# Altium footprint library DAC.PcbLib: 30 footprints (part 1 of 2)
Each footprint in its own frame and in the unit in brackets; x right, y up, seen from the top. Pads: shape width x height; smd on the part's side, far side on the other; paste and mask are expansions set on the pad; w line width, h text height; cw(c..) or ccw(c..) is an arc to the next point about the centre after c.
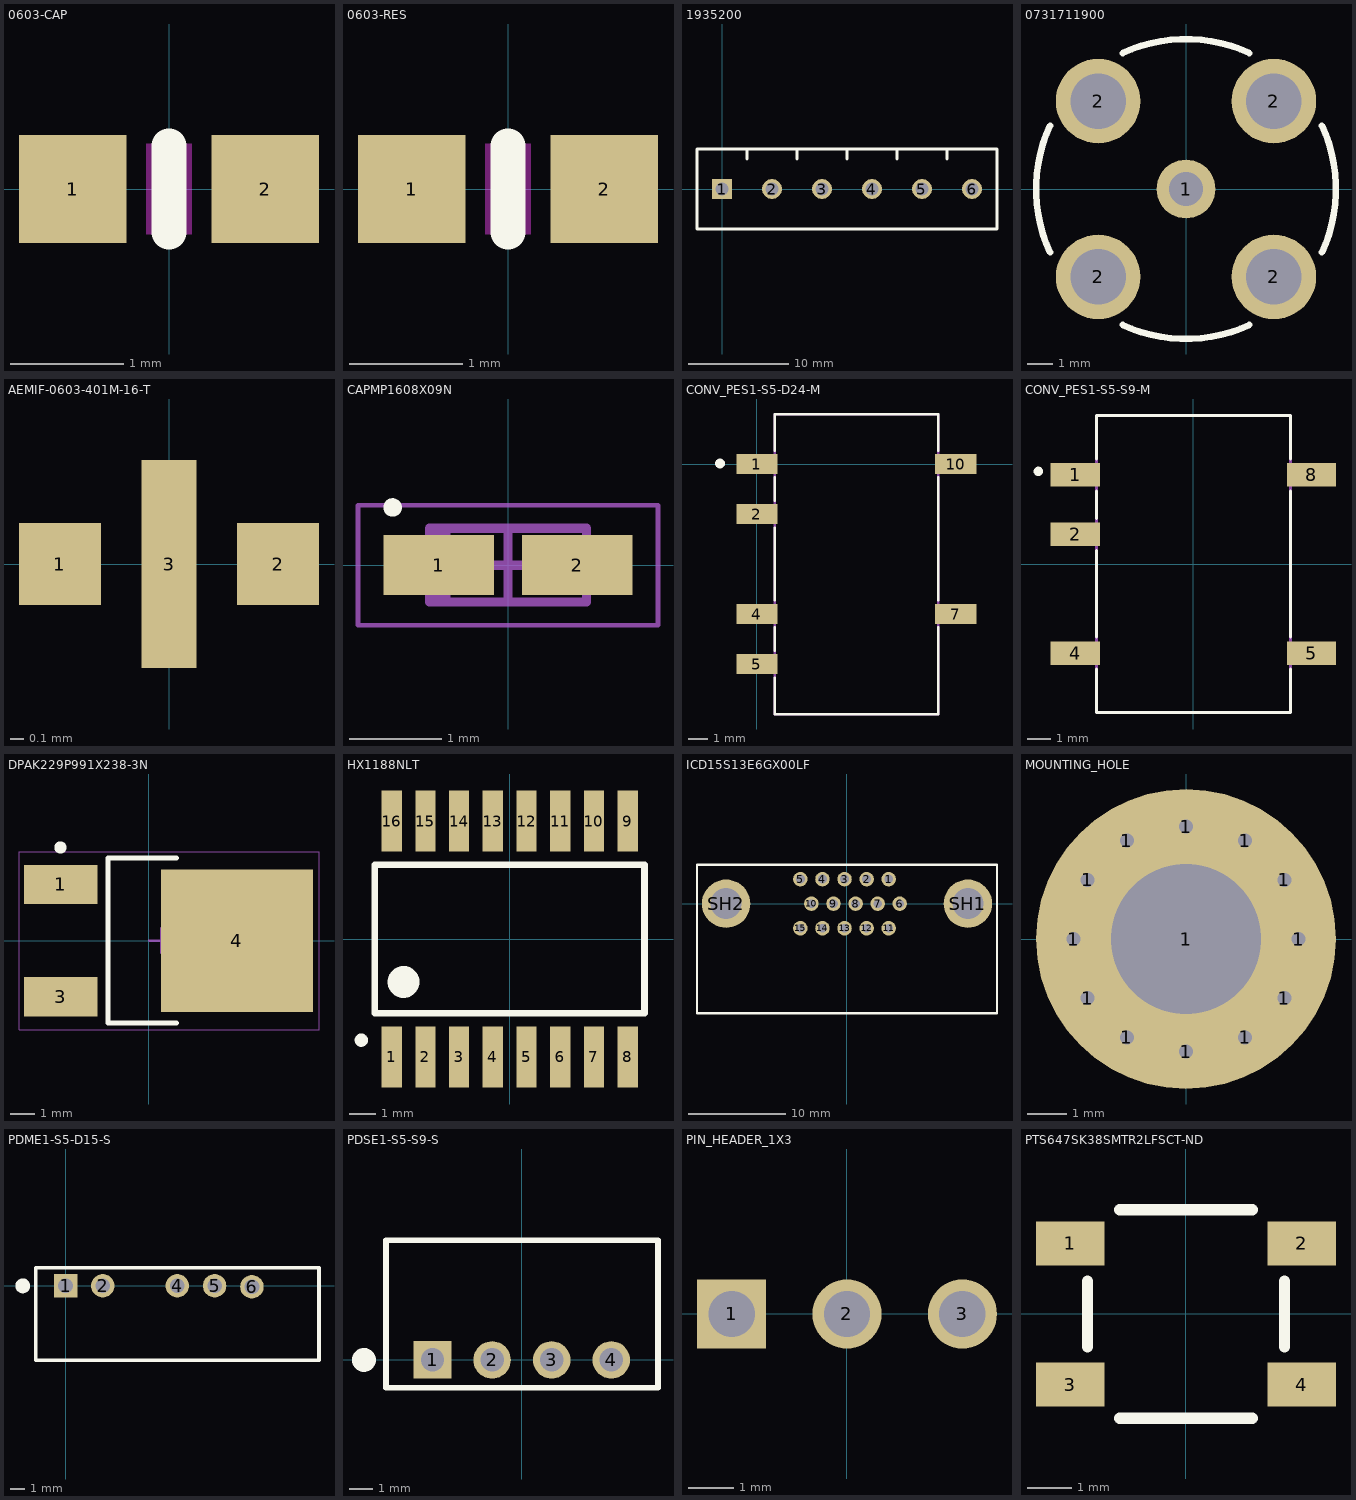
[diagram p0: the footprints below, top view; thin cyan lines are the x and y axes]

## 0603-CAP [mm]
pads (2):
  rect 0.95x0.95 smd: 1(-0.85,0) 2(0.85,0)
Top Layer keep-out:
  region: -0.2,0.4 0.2,0.4 0.2,-0.4 -0.2,-0.4
Top Overlay:
  lines w0.305: 0,-0.381 0,0.381
3D body "CL10B105MO8NNWC--3DModel-STEP-56544.STEP": height 0.78, standoff -0.02, extent -0.775,-0.45 0.825,0.45

## 0603-RES [mm]
pads (2):
  rect 0.95x0.95 smd: 1(-0.85,0) 2(0.85,0)
Top Layer keep-out:
  region: -0.2,0.4 0.2,0.4 0.2,-0.4 -0.2,-0.4
Top Overlay:
  lines w0.305: 0,-0.381 0,0.381
3D body "0603res.step": height 0.44, standoff -0.02, extent -0.8,-0.4 0.8,0.4

## 1935200 [mm]
pads (6):
  rect 2x2 hole 1.3: 1(0,0)
  round 2 hole 1.3: 2(5,0) 3(10,0) 4(15,0) 5(20,0) 6(25,0)
Top Overlay:
  lines w0.254: 2.5,3 2.5,4 ; 7.5,3 7.5,4 ; 12.5,3 12.5,4 ; 17.5,3 17.5,4 ; 22.5,3 22.5,4 ; -2.5,-4 27.5,-4 27.5,4 -2.5,4 -2.5,-4
3D body "1935161--3DModel-STEP-56544.STEP": height 11.5, standoff -3.4, extent -2.9,-4 7.5,5
3D body "1935161--3DModel-STEP-56544.STEP": height 11.5, standoff -3.4, extent 7.1,-4 17.5,5
3D body "1935161--3DModel-STEP-56544.STEP": height 11.5, standoff -3.4, extent 17.1,-4 27.5,5

## 0731711900 [mil] "CONN BNC JACK STR 75 OHM PCB"
pads (5):
  round 90 / inner round 60 / far side round 60 hole 52: 1(0,0)
  round 130 hole 85: 2(-135,-135)
  round 130 hole 85 paste+0: 2(-135,135) 2(135,-135) 2(135,135)
Top Overlay:
  lines w10: -208.82,-97.37 cw(c0,0) -208.82,97.37 ; -97.37,-208.82 ccw(c0,0) 97.37,-208.82 ; -97.37,208.82 cw(c0,0) 97.37,208.82 ; 208.82,-97.37 ccw(c0,0) 208.82,97.37
3D body "731711900.stp": height 657, standoff -121.74, extent -217,-216.53 217,216.54

## AEMIF-0603-401M-16-T [mm]
pads (3):
  rect 0.6x0.6 smd: 1(-0.8,0) 2(0.8,0)
  rect 0.4x1.524 smd: 3(0,0)
3D body "CL10B105MO8NNWC--3DModel-STEP-56544.STEP": height 0.8, standoff 0, extent -0.8,-0.45 0.8,0.45

## CAPMP1608X09N [mm] "Molded Capacitor, 2-Leads, Body 1.60x0.75mm, IPC Medium Density"
height 0.9
pads (2):
  rect 1.2x0.65 smd: 1(-0.75,0) 2(0.75,0)
Top Overlay:
  circle w0.1: c-1.25,0.625 r0.05
Mechanical 13:
  rectangle: -0.85,-0.4 -0.621,0.4
  lines w0.1: -0.85,-0.4 -0.85,0.4 0.85,0.4 0.85,-0.4 -0.85,-0.4
Mechanical 15:
  lines w0.05: -1.625,-0.65 -1.625,0.65 1.625,0.65 1.625,-0.65 -1.625,-0.65
  lines w0.1: -0.4,0 0.4,0 ; 0,-0.4 0,0.4
3D body "CAPMP1608X09N.step": height 0.9, standoff 0, extent -1.07,-0.4 1.07,0.4

## CONV_PES1-S5-D24-M [mm]
pads (6):
  rect 2.1x1 smd: 1(0,0) 2(0,-2.54) 4(0,-7.62) 5(0,-10.16) 7(10.1,-7.62) 10(10.1,0)
Top Overlay:
  circle w0.25: c-1.88,0.025 r0.125
  lines w0.127: 0.9,-10.85 0.9,-12.7 9.2,-12.7 9.2,-8.3 ; 0.9,-9.48 0.9,-8.3 ; 0.9,-6.93 0.9,-3.23 ; 0.9,-1.86 0.9,-0.68 ; 0.9,0.68 0.9,2.54 9.2,2.54 9.2,0.68 ; 9.2,-6.93 9.2,-0.68
Mechanical 4:
  circle w0.2: c-0.58,-0.08 r0.1
  circle w0.2: c-0.58,-0.08 r0.1
  lines w0.127: 0.9,-12.7 9.2,-12.7 ; 0.9,-12.7 0.9,2.54 ; 0.9,-12.7 9.2,-12.7 ; 0.9,-12.7 0.9,2.54 ; 0.9,2.54 9.2,2.54 ; 0.9,2.54 9.2,2.54 ; 9.2,-12.7 9.2,2.54 ; 9.2,-12.7 9.2,2.54
3D body "CUI_PES1-S5-D24-M.step": height 7, standoff -0.25, extent -0.572,-12.7 10.672,2.54

## CONV_PES1-S5-S9-M [mm]
pads (5):
  rect 2.1x1 smd: 1(-5.05,3.81) 2(-5.05,1.27) 4(-5.05,-3.81) 5(5.05,-3.81) 8(5.05,3.81)
Top Overlay:
  circle w0.2: c-6.629,3.962 r0.1
  lines w0.127: -4.15,-4.5 -4.15,-6.35 4.15,-6.35 4.15,-4.49 ; -4.15,-3.12 -4.15,0.58 ; -4.15,1.95 -4.15,3.13 ; -4.15,4.49 -4.15,6.35 4.15,6.35 4.15,4.49 ; 4.15,-3.12 4.15,3.13
Mechanical 13:
  lines w0.127: -4.15,-6.35 4.15,-6.35 4.15,6.35 -4.15,6.35 -4.15,-6.35
3D body "CUI_PES1-S5-S9-M.step": height 7.2, standoff -0.05, extent -5.622,-6.35 5.622,6.35

## DPAK229P991X238-3N [mm] "D-PAK, 3-Pads, Body 6.21x6.73mm (max), IPC Medium Density"
height 2.38
pads (3):
  rect 3x1.6 smd: 1(-3.59,2.29) 3(-3.59,-2.29)
  rect 6.2x5.8 smd: 4(3.59,0)
Top Overlay:
  circle w0.25: c-3.6,3.8 r0.125
  lines w0.2: 1.125,-3.361 -1.655,-3.361 -1.655,3.362 1.125,3.362
Mechanical 15:
  lines w0.05: -5.29,-3.625 6.939,-3.625 6.939,3.625 -5.29,3.625 -5.29,-3.625
  lines w0.1: 0.01,0 1.01,0 ; 0.51,-0.5 0.51,0.5
3D body "DPAK229P991X238-3N.step": height 2.38, standoff 0, extent -4.35,-3.375 5.555,3.375

## HX1188NLT [mil] "XFRMR MAGNETIC 1PORT 1:1 10/100"
height 236
pads (16):
  rect 30x90 smd: 1(-175,-175) 2(-125,-175) 3(-75,-175) 4(-25,-175) 5(25,-175) 6(75,-175) 7(125,-175) 8(175,-175) 9(175,175) 10(125,175) 11(75,175) 12(25,175) 13(-25,175) 14(-75,175) 15(-125,175) 16(-175,175)
Top Overlay:
  circle w23.62: c-157.48,-63.62 r11.81
  circle w9.84: c-220,-150 r4.92
  lines w10: -200,-110 -200,110 200,110 200,-110 -200,-110
3D body "HX1188NL_3D.STEP": height 235, standoff 0, extent -250,-181.06 250,188.93

## ICD15S13E6GX00LF [mm] "CONN DSUB HD RCPT 15POS R/A SLDR"
pads (17):
  round 1.5 hole 0.9: 1(4.305,2.54) 2(2.025,2.54) 3(-0.255,2.54) 4(-2.535,2.54) 5(-4.815,2.54) 6(5.445,0) 7(3.165,0) 8(0.885,0) 9(-1.395,0) 10(-3.675,0) 11(4.305,-2.54) 12(2.025,-2.54) 13(-0.255,-2.54) 14(-2.535,-2.54) 15(-4.815,-2.54)
  round 5 hole 3.2: SH1(12.495,0) SH2(-12.495,0)
Top Overlay:
  lines w0.254: -15.5,-11.3 15.5,-11.3 15.5,4 -15.5,4 -15.5,-11.3
3D body "sicd15s13e6gx00lf.stp": height 12.65, standoff -3.1, extent -15.5,-17.5 15.5,4.08

## MOUNTING_HOLE [mil]
pads (13):
  round 30 hole 14: 1(-112.5,0) 1(-98.43,-59.06) 1(-98.43,59.06) 1(-59.06,-98.43) 1(-59.06,98.43) 1(0,-112.5) 1(0,112.5) 1(59.06,-98.43) 1(59.06,98.43) 1(98.43,-59.06) 1(98.43,59.06) 1(112.5,0)
  round 300 hole 150: 1(0,0)

## PDME1-S5-D15-S [mm]
pads (5):
  rect 1.6x1.6 hole 1: 1(0,0)
  round 1.6 hole 1: 2(2.54,0) 4(7.62,0) 5(10.16,0) 6(12.704,-0.065)
Top Overlay:
  circle w0.508: c-2.921,0 r0.254
  lines w0.254: -2.037,-5.08 -2.037,1.238 17.278,1.238 17.278,-5.08 -2.037,-5.08
3D body "CUI_PDME1-S5-D15-S.step": height 10.16, standoff -4.1, extent -2.227,-4.916 17.423,1.084

## PDSE1-S5-S9-S [mm]
pads (4):
  rect 1.6x1.6 hole 1: 1(-3.81,0)
  round 1.6 hole 1: 2(-1.27,0) 3(1.27,0) 4(3.81,0)
Top Overlay:
  circle w0.508: c-6.731,0 r0.254
  lines w0.254: -5.8,-1.185 5.8,-1.185 5.8,5.1 -5.8,5.1 -5.8,-1.185
3D body "CUI_PDSE1-S5-S9-S.step": height 10.16, standoff -4.1, extent -5.8,-0.854 5.8,5.146

## PIN_HEADER_1X3 [mil]
pads (3):
  rect 60x60 hole 40.16: 1(-100,0)
  round 60 hole 40.16: 2(0,0) 3(100,0)
3D body "CON3_1X3_TU_TSW.step": height 500, standoff -200, extent -150,-50 150,50

## PTS647SK38SMTR2LFSCT-ND [mm]
pads (4):
  rect 1.55x1 smd: 1(-2.625,1.6) 2(2.625,1.6) 3(-2.625,-1.6) 4(2.625,-1.6)
Top Overlay:
  lines w0.254: -2.235,-0.75 -2.235,0.75 ; -1.5,-2.362 1.5,-2.362 ; -1.5,2.362 1.5,2.362 ; 2.235,-0.75 2.235,0.75
3D body "Tact Switch 4.5mm SMT.step": height 4.2, standoff 0, extent -3.75,-2.25 3.75,2.25